# EAGLE library part CON-9X1 (library eagleLib v2)
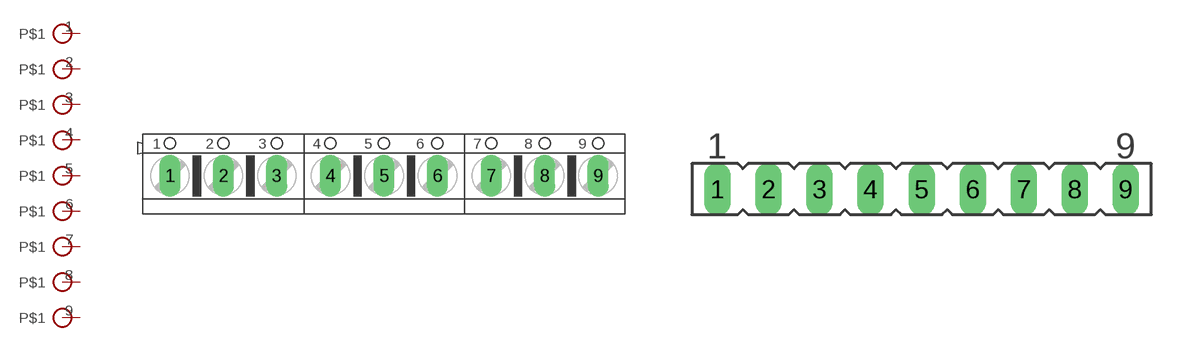
[diagram p5: symbol with the pads of AK500/9; footprints AK500/9, FE09]

Designator prefix -; gates G$1=PIN G$2=PIN G$3=PIN G$4=PIN G$5=PIN G$6=PIN G$7=PIN G$8=PIN G$9=PIN

## CON-9X1P  [AK500/9]
1  G$1:P$1
2  G$2:P$1
3  G$3:P$1
4  G$4:P$1
5  G$5:P$1
6  G$6:P$1
7  G$7:P$1
8  G$8:P$1
9  G$9:P$1

## CON-9X1Q  [FE09]
Pads as for AK500/9

## CON-9X1R  [MA09-1]
Pads as for AK500/9

## CON-9X1M  [KK-156-9]
Pads as for AK500/9

## Footprint AK500/9 (pad centres in mm)
CONNECTOR
drill 1.321 long: 1 -20.015,0; 2 -15.011,0; 3 -10.033,0; 4 -5.004,0; 5 0,0; 6 5.004,0; 7 10.033,0; 8 15.011,0; 9 20.015,0

## Footprint FE09 (pad centres in mm)
FEMALE HEADER
drill 0.813 long: 1 -10.16,0; 2 -7.62,0; 3 -5.08,0; 4 -2.54,0; 5 0,0; 6 2.54,0; 7 5.08,0; 8 7.62,0; 9 10.16,0

## Footprint MA09-1 (pad centres in mm)
PIN HEADER
drill 1.016 long: 1 -10.16,0; 2 -7.62,0; 3 -5.08,0; 4 -2.54,0; 5 0,0; 6 2.54,0; 7 5.08,0; 8 7.62,0; 9 10.16,0

## Footprint KK-156-9 (pad centres in mm)
KK 156 HEADER Source: http://www.molex.com/pdm_docs/sd/026604100_sd.pdf
drill 1.7 pad 2.184 long: 1 -15.84,0; 2 -11.88,0; 3 -7.92,0; 4 -3.96,0; 5 0,0; 6 3.96,0; 7 7.92,0; 8 11.88,0; 9 15.84,0